# EAGLE library part AMPHENOL_USB_C_HORIZONTAL_RECEPTACLE (library amphenol_usb)
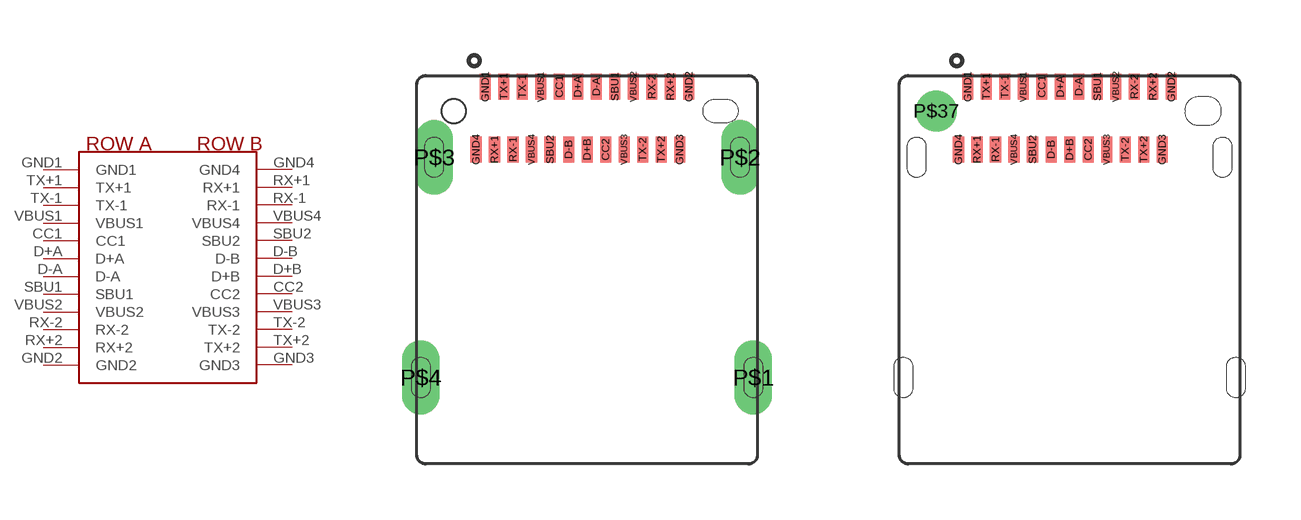
[diagram p2: symbol with the pads of AMPHENOL_USB_C_HORIZONTAL_RECEPTACLE_1; footprints AMPHENOL_USB_C_HORIZONTAL_RECEPTACLE_1, AMPHENOL_USB_C_HORIZONTAL_RECEPTACLE_2]

Designator prefix -

## AMPHENOL_USB_C_HORIZONTAL_RECEPTACLES  [AMPHENOL_USB_C_HORIZONTAL_RECEPTACLE_1]
CC1  CC1
CC2  CC2
D+A  D+A
D+B  D+B
D-A  D-A
D-B  D-B
GND1  GND1
GND2  GND2
GND3  GND3
GND4  GND4
RX+1  RX+1
RX+2  RX+2
RX-1  RX-1
RX-2  RX-2
SBU1  SBU1
SBU2  SBU2
TX+1  TX+1
TX+2  TX+2
TX-1  TX-1
TX-2  TX-2
VBUS1  VBUS1
VBUS2  VBUS2
VBUS3  VBUS3
VBUS4  VBUS4

## AMPHENOL_USB_C_HORIZONTAL_RECEPTACLET  [AMPHENOL_USB_C_HORIZONTAL_RECEPTACLE_2]
Pads as for AMPHENOL_USB_C_HORIZONTAL_RECEPTACLE_1

## Footprint AMPHENOL_USB_C_HORIZONTAL_RECEPTACLE_1 (pad centres in mm)
smd 0.3 x 0.7: CC1 -0.75,0.66; CC2 0.5,-1.04; D+A -0.25,0.66; D+B 0,-1.04; D-A 0.25,0.66; D-B -0.5,-1.04; GND1 -2.75,0.66; GND2 2.75,0.66; GND3 2.5,-1.04; GND4 -3,-1.04; RX+1 -2.5,-1.04; RX+2 2.25,0.66; RX-1 -2,-1.04; RX-2 1.75,0.66; SBU1 0.75,0.66; SBU2 -1,-1.04; TX+1 -2.25,0.66; TX+2 2,-1.04; TX-1 -1.75,0.66; TX-2 1.5,-1.04; VBUS1 -1.25,0.66; VBUS2 1.25,0.66; VBUS3 1,-1.04; VBUS4 -1.5,-1.04
drill 0.5 pad 0.8 long: P$1 4.49,-7.2; P$2 4.13,-1.25; P$3 -4.13,-1.25; P$4 -4.49,-7.2
hole 0.65 at -3.6,0

## Footprint AMPHENOL_USB_C_HORIZONTAL_RECEPTACLE_2 (pad centres in mm)
smd 0.3 x 0.7: CC1 -0.75,0.66; CC2 0.5,-1.04; D+A -0.25,0.66; D+B 0,-1.04; D-A 0.25,0.66; D-B -0.5,-1.04; GND1 -2.75,0.66; GND2 2.75,0.66; GND3 2.5,-1.04; GND4 -3,-1.04; RX+1 -2.5,-1.04; RX+2 2.25,0.66; RX-1 -2,-1.04; RX-2 1.75,0.66; SBU1 0.75,0.66; SBU2 -1,-1.04; TX+1 -2.25,0.66; TX+2 2,-1.04; TX-1 -1.75,0.66; TX-2 1.5,-1.04; VBUS1 -1.25,0.66; VBUS2 1.25,0.66; VBUS3 1,-1.04; VBUS4 -1.5,-1.04
drill 0.6 pad 0.75: P$37 -3.6,0